# Altium schematic symbol library FM25CL64B-GA.SchLib: 1 symbol
Pins are listed as number, name and electrical type; pins without a type are passive.

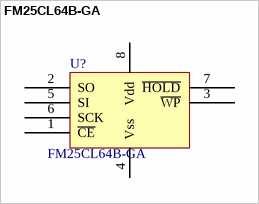
[diagram p0: symbol FM25CL64B-GA]

## FM25CL64B-GA
designator U?
footprint SO-8
pins: 1 ~{CE}, 2 SO, 3 ~{WP}, 4 Vss, 5 SI, 6 SCK, 7 ~{HOLD}, 8 Vdd